# Altium schematic symbol library Teensy3-6.Schlib: 1 symbol
Pins are listed as number, name and electrical type; pins without a type are passive.

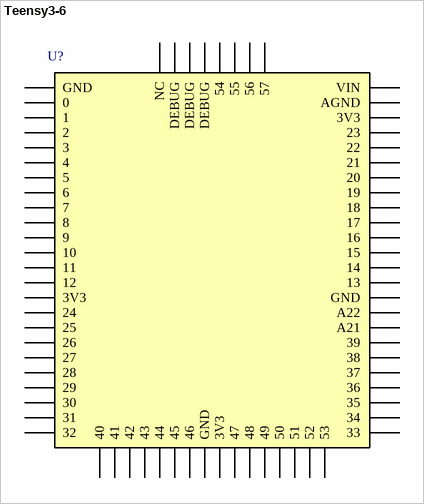
[diagram p0: symbol Teensy3-6]

## Teensy3-6
designator U?  (value not drawn)
Teensy 3.6 microcontroller board
pins: 1 GND, 2 VIN, 3 0, 4 AGND, 5 1, 6 3V3, 7 2, 8 23, 9 3, 10 22, 11 4, 12 21, 13 5, 14 20, 15 6, 16 19, 17 7, 18, 19 8, 20 17, 21 9, 22 16, 23 10, 24 15, 25 11, 26 14, 27 12, 28 13, 29 3V3, 30 GND, 31 24, 32 A22, 33 25, 34 A21, 35 26, 36 39, 37 27, 38, 39 28, 40 37, 41 29, 42 36, 43 30, 44 35, 45 31, 46 34, 47 32, 48 33, 49 40, 50 41, 51 42, 52 43, 53 44, 54 45, 55 46, 56 GND, 57 3V3, 58 47, 59 48, 60 49, 61 50, 62 51, 63 52, 64 53, 65 NC, 66 DEBUG, 67 DEBUG, 68 DEBUG, 69 54, 70 55, 71 56, 72 57